# Altium footprint library CS4344.PcbLib: 1 footprints
Each footprint in its own frame and in the unit in brackets; x right, y up, seen from the top. Pads: shape width x height; smd on the part's side, far side on the other; paste and mask are expansions set on the pad; w line width, h text height; cw(c..) or ccw(c..) is an arc to the next point about the centre after c.
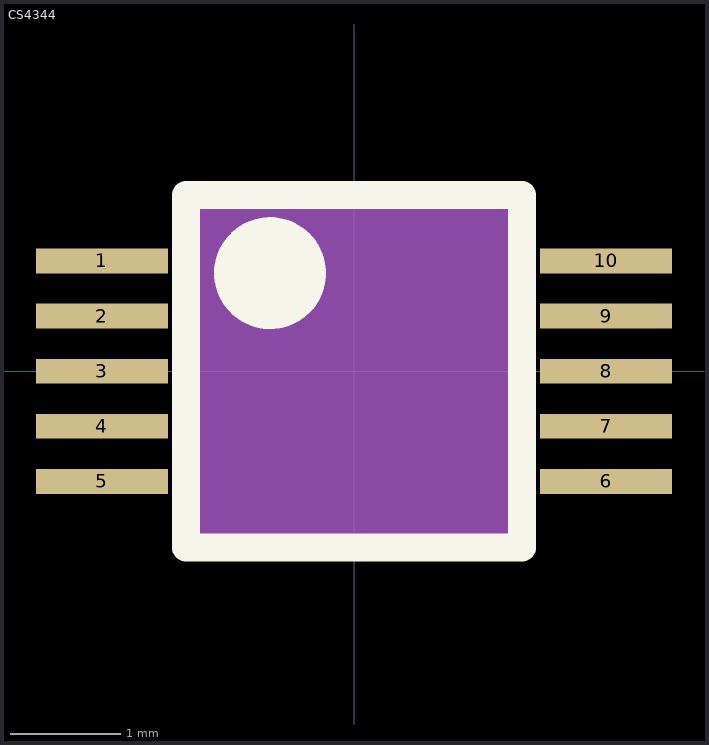
[diagram p0: the footprint, top view; thin cyan lines are the x and y axes]

## CS4344 [mm]
pads (10):
  rect 1.2x0.225 smd: 1(-2.286,1) 2(-2.286,0.5) 3(-2.286,0) 4(-2.286,-0.5) 5(-2.286,-1) 6(2.286,-1) 7(2.286,-0.5) 8(2.286,0) 9(2.286,0.5) 10(2.286,1)
Top Overlay:
  circle w0.508: c-0.762,0.889 r0.254
  lines w0.254: -1.524,-1.6 -1.524,1.6 1.524,1.6 1.524,-1.6 -1.524,-1.6
Mechanical 1:
  rectangle: -1.651,-1.651 1.651,1.524